# EAGLE library part ICHIGOJAM_CN (library FaBo)
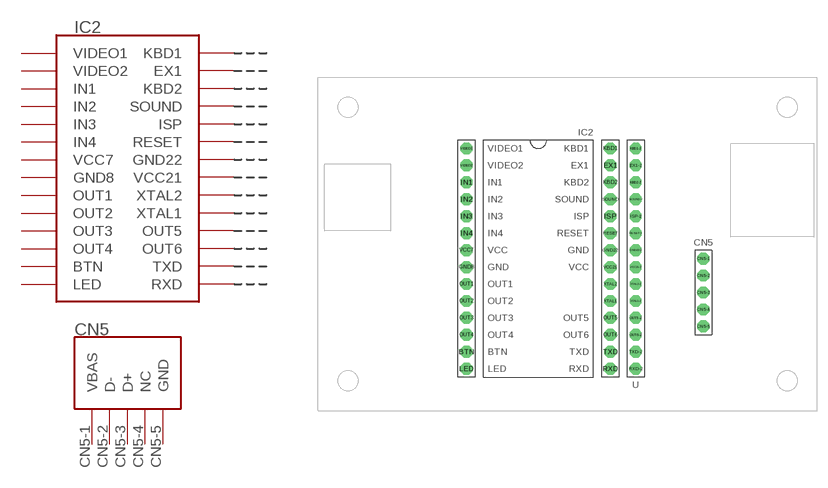
[diagram p2: symbol with the pads of ICHIGOJAM_CN; footprint ICHIGOJAM_CN]

Designator prefix -

## ICHIGOJAM_CN  [ICHIGOJAM_CN]
BTN  BTN
CN5-1  VBAS
CN5-2  D-
CN5-3  D+
CN5-4  NC
CN5-5  GND
EX1  EX1
EX1-2  EX1-2
GND8  GND8
GND22  GND22
GND22-2  GND22-2
IN1  IN1
IN2  IN2
IN3  IN3
IN4  IN4
ISP  ISP
ISP-2  ISP-2
KBD1  KBD1
KBD1-2  KBD1-2
KBD2  KBD2
KBD2-2  KBD2-2
LED  LED
OUT1  OUT1
OUT2  OUT2
OUT3  OUT3
OUT4  OUT4
OUT5  OUT5
OUT5-2  OUT5-2
OUT6  OUT6
OUT6-2  OUT6-2
RESET  RESET
RESET-2  RESET-2
RXD  RXD
RXD-2  RXD-2
SOUND  SOUND
SOUND-2  SOUND-2
TXD  TXD
TXD-2  TXD-2
VCC7  VCC7
VCC21  VCC21
VCC21-2  VCC21-2
VIDEO1  VIDEO1
VIDEO2  VIDEO2
XTAL1  XTAL1
XTAL1-2  XTAL1-2
XTAL2  XTAL2
XTAL2-2  XTAL2-2

## Footprint ICHIGOJAM_CN (pad centres in mm)
drill 1 pad 1.778 octagon: BTN -11.43,-13.97; CN5-1 24.13,0; CN5-2 24.13,-2.54; CN5-3 24.13,-5.08; CN5-4 24.13,-7.62; CN5-5 24.13,-10.16; EX1 10.16,13.97; EX1-2 13.97,13.97; GND8 -11.43,-1.27; GND22 10.16,1.27; GND22-2 13.97,1.27; IN1 -11.43,11.43; IN2 -11.43,8.89; IN3 -11.43,6.35; IN4 -11.43,3.81; ISP 10.16,6.35; ISP-2 13.97,6.35; KBD1 10.16,16.51; KBD1-2 13.97,16.51; KBD2 10.16,11.43; KBD2-2 13.97,11.43; LED -11.43,-16.51; OUT1 -11.43,-3.81; OUT2 -11.43,-6.35; OUT3 -11.43,-8.89; OUT4 -11.43,-11.43; OUT5 10.16,-8.89; OUT5-2 13.97,-8.89; OUT6 10.16,-11.43; OUT6-2 13.97,-11.43; RESET 10.16,3.81; RESET-2 13.97,3.81; RXD 10.16,-16.51; RXD-2 13.97,-16.51; SOUND 10.16,8.89; SOUND-2 13.97,8.89; TXD 10.16,-13.97; TXD-2 13.97,-13.97; VCC7 -11.43,1.27; VCC21 10.16,-1.27; VCC21-2 13.97,-1.27; VIDEO1 -11.43,16.51; VIDEO2 -11.43,13.97; XTAL1 10.16,-6.35; XTAL1-2 13.97,-6.35; XTAL2 10.16,-3.81; XTAL2-2 13.97,-3.81